# Altium footprint library TBB-AUDIO_RA8D1_INTERPOSER_v2.PcbLib: 6 footprints
Each footprint in its own frame and in the unit in brackets; x right, y up, seen from the top. Pads: shape width x height; smd on the part's side, far side on the other; paste and mask are expansions set on the pad; w line width, h text height; cw(c..) or ccw(c..) is an arc to the next point about the centre after c.
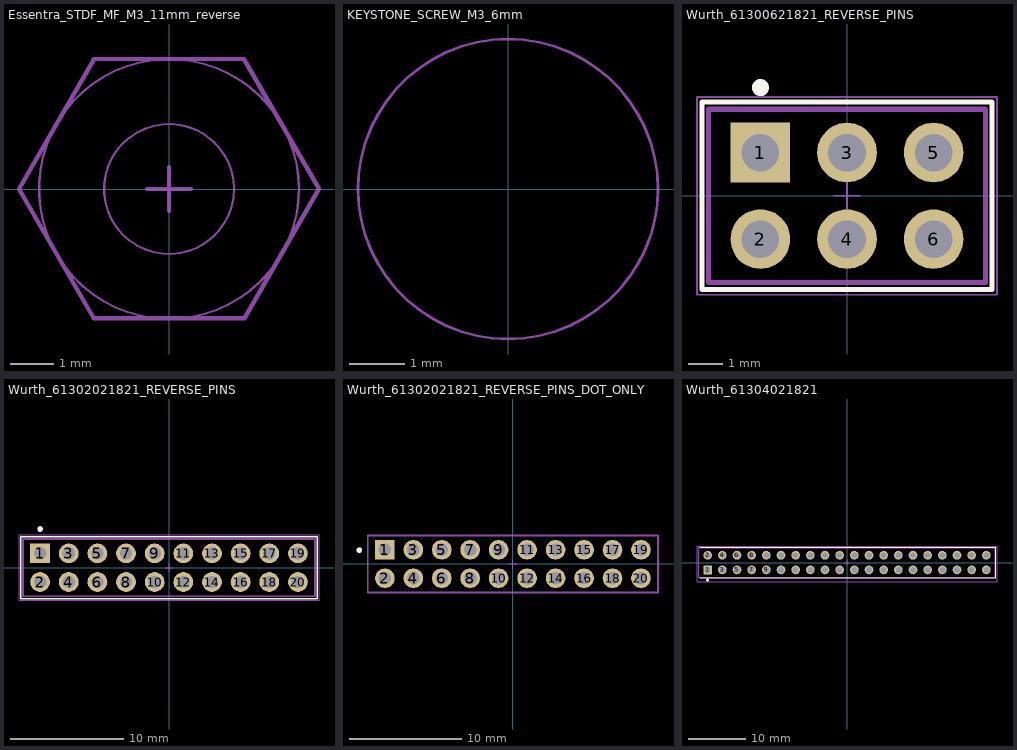
[diagram p0: the footprints below, top view; thin cyan lines are the x and y axes]

## Essentra_STDF_MF_M3_11mm_reverse [mm] "Standoff, Nylon, Male-Fem, M3x0.5, 11mm tall, 6mm Hex"
height 10
Top Courtyard:
  circle w0.05: c0,0 r1.5
  circle w0.05: c0,0 r3
  lines w0.1: -3.465,0.001 -1.739,-2.987 1.743,-2.984 3.463,0.002 1.733,2.999 -1.73,3.001 -3.465,0.001
Top Component Center:
  lines w0.1: -0.5,0 0.5,0 ; 0,-0.5 0,0.5
3D body "Standoff_M-F_M3x0.5_11mm_generic.step": height 15.76, standoff 0, extent -3,-2.598 3,2.598

## KEYSTONE_SCREW_M3_6mm [mm] "Screw, M3 x 6mm PH Slotted, Nylon"
height 7.7
Top Courtyard:
  circle w0.05: c0,0 r2.7
3D body "keystone-PN29341.STEP": height 1.35, standoff -6.35, extent -2.7,-2.688 2.7,2.688

## Wurth_61300621821_REVERSE_PINS [mm] "Wurth Socket Female 0.1\" pitch 6pos 2x3, 3.1mm pins, 8.5mm body, pin numbers reversed"
height 8.54
pads (6):
  rect 1.75x1.75 hole 1.1: 1(-2.54,1.27)
  round 1.75 hole 1.1: 2(-2.54,-1.27) 3(0,1.27) 4(0,-1.27) 5(2.54,1.27) 6(2.54,-1.27)
Top Overlay:
  circle w0.25: c-2.54,3.175 r0.125
  lines w0.15: -4.25,-2.75 4.25,-2.75 4.25,2.75 -4.25,2.75 -4.25,-2.75
Top Assembly:
  lines w0.15: -4.06,-2.54 -4.06,2.54 4.06,2.54 4.06,-2.54 -4.06,-2.54
Top Designator:
  text ".Designator" at -7.498,-0.5 h1.5
Top Courtyard:
  lines w0.05: -4.4,-2.9 4.4,-2.9 4.4,2.9 -4.4,2.9 -4.4,-2.9
Top Component Center:
  lines w0.05: -0.381,0 0.381,0 ; 0,-0.381 0,0.381
Top Component Outline:
  lines w0.15: -4.06,-2.54 4.06,-2.54 4.06,2.54 -4.06,2.54 -4.06,-2.54
3D body "Wurth_61300621821_color.step": height 8.5, standoff -3.1, extent -4.06,-2.54 4.06,2.54

## Wurth_61302021821_REVERSE_PINS [mm] "Wurth Socket Female 0.1\" pitch 20pos 2x10 TH, 3.1mm pins, 8.5mm body, pin numbers reversed"
height 8.38
pads (20):
  rect 1.75x1.75 hole 1.1: 1(-11.43,1.27)
  round 1.75 hole 1.1: 2(-11.43,-1.27) 3(-8.89,1.27) 4(-8.89,-1.27) 5(-6.35,1.27) 6(-6.35,-1.27) 7(-3.81,1.27) 8(-3.81,-1.27) 9(-1.27,1.27) 10(-1.27,-1.27) 11(1.27,1.27) 12(1.27,-1.27) 13(3.81,1.27) 14(3.81,-1.27) 15(6.35,1.27) 16(6.35,-1.27) 17(8.89,1.27) 18(8.89,-1.27) 19(11.43,1.27) 20(11.43,-1.27)
Top Overlay:
  circle w0.25: c-11.43,3.429 r0.125
  lines w0.15: -13.15,-2.75 13.15,-2.75 13.15,2.75 -13.15,2.75 -13.15,-2.75
Top Assembly:
  lines w0.15: -12.95,-2.54 -12.95,2.54 12.95,2.54 12.95,-2.54 -12.95,-2.54
Top Designator:
  text ".Designator" at -7.498,-0.5 h1.5
Top Courtyard:
  lines w0.05: -13.3,-2.9 13.3,-2.9 13.3,2.9 -13.3,2.9 -13.3,-2.9
Top Component Center:
  lines w0.05: -0.381,0 0.381,0 ; 0,-0.381 0,0.381
Top Component Outline:
  lines w0.15: -12.95,-2.54 12.95,-2.54 12.95,2.54 -12.95,2.54 -12.95,-2.54
3D body "Wurth_61202021821_color.step": height 8.5, standoff -3.1, extent -12.95,-2.54 12.95,2.54

## Wurth_61302021821_REVERSE_PINS_DOT_ONLY [mm] "Wurth Socket Female 0.1\" pitch 20pos 2x10 TH, 3.1mm pins, 8.5mm body, pin numbers reversed"
height 8.38
pads (20):
  rect 1.75x1.75 hole 1.1: 1(-11.43,1.27)
  round 1.75 hole 1.1: 2(-11.43,-1.27) 3(-8.89,1.27) 4(-8.89,-1.27) 5(-6.35,1.27) 6(-6.35,-1.27) 7(-3.81,1.27) 8(-3.81,-1.27) 9(-1.27,1.27) 10(-1.27,-1.27) 11(1.27,1.27) 12(1.27,-1.27) 13(3.81,1.27) 14(3.81,-1.27) 15(6.35,1.27) 16(6.35,-1.27) 17(8.89,1.27) 18(8.89,-1.27) 19(11.43,1.27) 20(11.43,-1.27)
Top Overlay:
  circle w0.25: c-13.7,1.24 r0.125
Top Assembly:
  lines w0.15: -12.95,-2.54 12.95,-2.54 12.95,2.54 -12.95,2.54 -12.95,-2.54
Top Designator:
  text ".Designator" at -7.498,-0.5 h1.5
Top Courtyard:
  lines w0.05: -12.95,-2.54 -12.95,2.54 12.95,2.54 12.95,-2.54 -12.95,-2.54
Top Component Center:
  lines w0.05: -0.381,0 0.381,0 ; 0,-0.381 0,0.381
Top Component Outline:
  lines w0.15: -12.95,-2.54 -12.95,2.54 12.95,2.54 12.95,-2.54 -12.95,-2.54
3D body "Wurth_61202021821_color.step": height 8.5, standoff -3.1, extent -12.95,-2.54 12.95,2.54

## Wurth_61304021821 [mm] "Wurth Elektronik 2.54mm 2x20 TH straight socket, 8.5mm body, 3.1mm solder post"
height 8.4
pads (40):
  rect 1.5x1.5 hole 1.02: 1(-24.13,-1.27)
  round 1.5 hole 1.02: 2(-24.13,1.27) 3(-21.59,-1.27) 4(-21.59,1.27) 5(-19.05,-1.27) 6(-19.05,1.27) 7(-16.51,-1.27) 8(-16.51,1.27) 9(-13.97,-1.27) 10(-13.97,1.27) 11(-11.43,-1.27) 12(-11.43,1.27) 13(-8.89,-1.27) 14(-8.89,1.27) 15(-6.35,-1.27) 16(-6.35,1.27) 17(-3.81,-1.27) 18(-3.81,1.27) 19(-1.27,-1.27) 20(-1.27,1.27) 21(1.27,-1.27) 22(1.27,1.27) 23(3.81,-1.27) 24(3.81,1.27) 25(6.35,-1.27) 26(6.35,1.27) 27(8.89,-1.27) 28(8.89,1.27) 29(11.43,-1.27) 30(11.43,1.27) 31(13.97,-1.27) 32(13.97,1.27) 33(16.51,-1.27) 34(16.51,1.27) 35(19.05,-1.27) 36(19.05,1.27) 37(21.59,-1.27) 38(21.59,1.27) 39(24.13,-1.27) 40(24.13,1.27)
Top Overlay:
  circle w0.254: c-24.13,-3.048 r0.127
  lines w0.2: -25.47,-2.615 25.775,-2.615 25.775,2.615 -25.47,2.615
Top 3D Body:
  lines w0.1: -25.65,-2.54 25.65,-2.54 ; -25.65,-2.54 -25.65,2.54 ; -25.65,-2.54 25.65,-2.54 ; -25.65,-2.54 -25.65,2.54 ; -25.65,2.54 25.65,2.54 ; -25.65,2.54 25.65,2.54 ; 25.65,-2.54 25.65,2.54 ; 25.65,-2.54 25.65,2.54
Top Courtyard:
  lines w0.05: -0.5,0 0.5,0 ; 0,-0.5 0,0.5 ; -25.975,-3.302 25.975,-3.302 25.975,2.815 -25.975,2.815 -25.975,-3.302
Bottom Component Outline:
  text ".Designator" at -7.498,-0.5 h1.5
3D body "61304021821.stp": height 8.45, standoff -3.05, extent -25.65,-2.54 25.65,2.54